# Altium schematic symbol library CA_POL.Schlib: 1 symbol
Pins are listed as number, name and electrical type; pins without a type are passive.

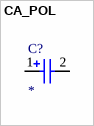
[diagram p0: symbol CA_POL]

## CA_POL
designator C?
pins: 1, 2
1 alternate drawing of the same symbol